# Altium footprint library PCB - CONNECTORS - Amphenol - 10118193-0001LF.PcbLib: 1 footprints
Each footprint in its own frame and in the unit in brackets; x right, y up, seen from the top. Pads: shape width x height; smd on the part's side, far side on the other; paste and mask are expansions set on the pad; w line width, h text height; cw(c..) or ccw(c..) is an arc to the next point about the centre after c.
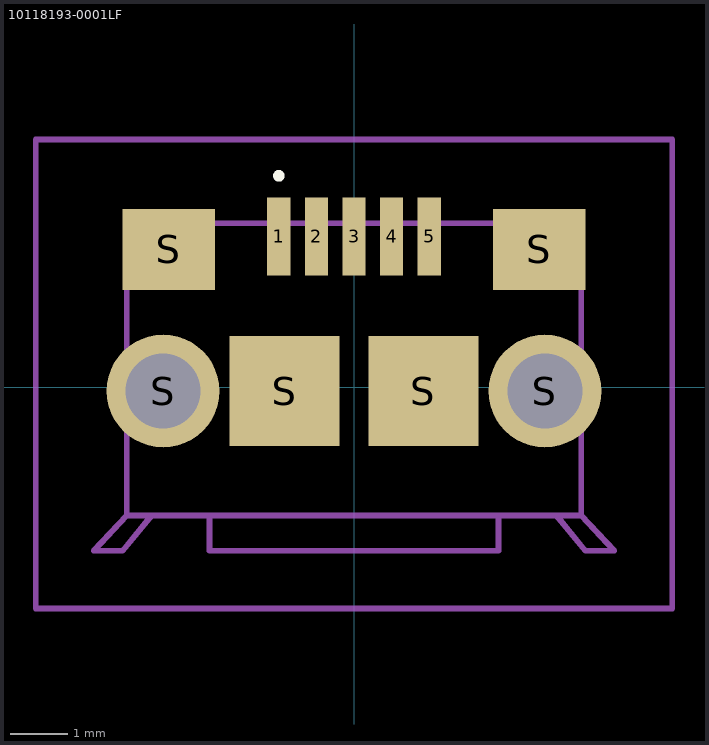
[diagram p0: the footprint, top view; thin cyan lines are the x and y axes]

## 10118193-0001LF [mm]
pads (11):
  rect 0.4x1.35 smd: 1(-1.3,2.605) 2(-0.65,2.605) 3(0,2.605) 4(0.65,2.605) 5(1.3,2.605)
  round 1.95 hole 1.3: S(-3.3,-0.07) S(3.3,-0.07)
  rect 1.6x1.4 smd: S(-3.2,2.38) S(3.2,2.38)
  rect 1.9x1.9 smd: S(-1.2,-0.07) S(1.2,-0.07)
Top Overlay:
  lines w0.1: -1.3,3.6 cw(c-1.3,3.65) -1.3,3.7 cw(c-1.3,3.65) -1.3,3.6
Mechanical 13:
  lines w0.1: -3.5,-2.22 -4,-2.83 -4.5,-2.83 -3.93,-2.22 ; -2.5,-2.22 -2.5,-2.83 2.5,-2.83 2.5,-2.22 ; 3.5,-2.22 4,-2.83 4.5,-2.83 3.93,-2.22 ; -3.93,-2.22 -3.93,2.83 3.93,2.83 3.93,-2.22 ; -3.93,-2.22 3.93,-2.22
Mechanical 15:
  lines w0.1: -5.5,-3.83 -5.5,4.28 5.5,4.28 5.5,-3.83 -5.5,-3.83